# Altium schematic symbol library RFmodules.SchLib: 47 symbols
Pins are listed as number, name and electrical type; pins without a type are passive.

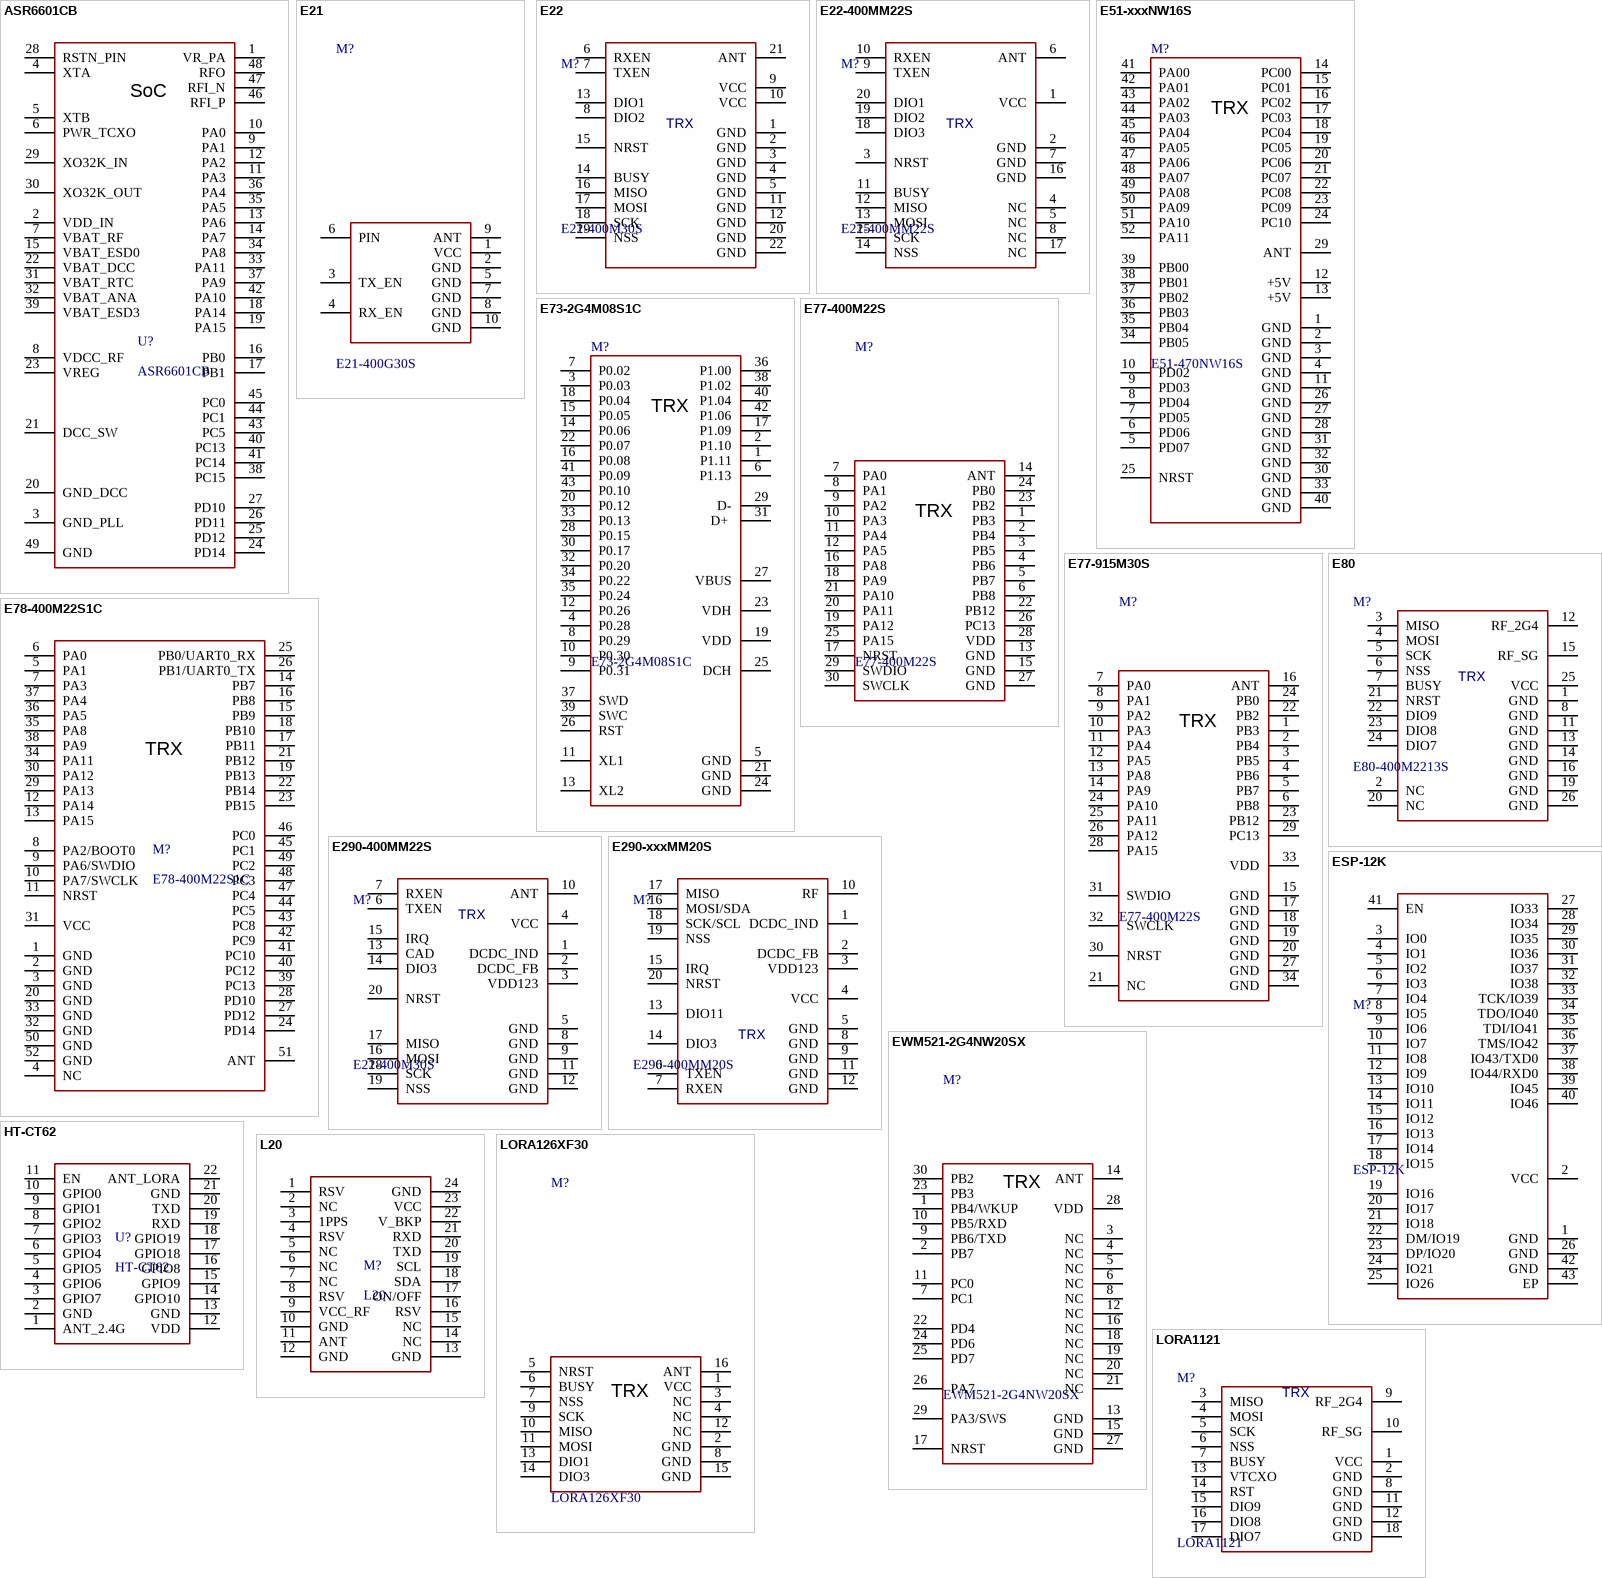
[diagram p0: symbols ASR6601CB to LORA1121]

## ASR6601CB
designator U?
pins: 1 VR_PA, 2 VDD_IN, 3 GND_PLL, 4 XTA, 5 XTB, 6 PWR_TCXO, 7 VBAT_RF, 8 VDCC_RF, 9 PA1, 10 PA0, 11 PA3, 12 PA2, 13 PA6, 14 PA7, 15 VBAT_ESD0, 16 PB0, 17 PB1, 18 PA14, 19 PA15, 20 GND_DCC, 21 DCC_SW, 22 VBAT_DCC, 23 VREG, 24 PD14, 25 PD12, 26 PD11, 27 PD10, 28 RSTN_PIN, 29 XO32K_IN, 30 XO32K_OUT, 31 VBAT_RTC, 32 VBAT_ANA, 33 PA11, 34 PA8, 35 PA5, 36 PA4, 37 PA9, 38 PC15, 39 VBAT_ESD3, 40 PC13, 41 PC14, 42 PA10, 43 PC5, 44 PC1, 45 PC0, 46 RFI_P, 47 RFI_N, 48 RFO, 49 GND
text: SoC

## E21
designator M?, comment E21-400G30S
footprint E21 (Small Outline No-Lead (SON), 2.00 mm pitch; 14 pin, 18.00 mm L X 27.50 mm W X 3.00 mm H body)
pins: 1 VCC, 2 GND, 3 TX_EN, 4 RX_EN, 5 GND, 6 PIN, 7 GND, 8 GND, 9 ANT, 10 GND

## E22
designator M?, comment E22-400M30S
footprint PE22(400M30S) (38.5mm*24mm*3.8mm-S)
pins: 1 GND, 2 GND, 3 GND, 4 GND, 5 GND, 6 RXEN, 7 TXEN, 8 DIO2, 9 VCC, 10 VCC, 11 GND, 12 GND, 13 DIO1, 14 BUSY, 15 NRST, 16 MISO, 17 MOSI, 18 SCK, 19 NSS, 20 GND, 21 ANT, 22 GND
text: TRX

## E22-400MM22S
designator M?
footprint E290-XXXMM20S
pins: 1 VCC, 2 GND, 3 NRST, 4 NC, 5 NC, 6 ANT, 7 GND, 8 NC, 9 TXEN, 10 RXEN, 11 BUSY, 12 MISO, 13 MOSI, 14 NSS, 15 SCK, 16 GND, 17 NC, 18 DIO3, 19 DIO2, 20 DIO1
text: TRX

## E51-xxxNW16S
designator M?, comment E51-470NW16S
footprint E51
pins: 1 GND, 2 GND, 3 GND, 4 GND, 5 PD07, 6 PD06, 7 PD05, 8 PD04, 9 PD03, 10 PD02, 11 GND, 12 +5V, 13 +5V, 14 PC00, 15 PC01, 16 PC02, 17 PC03, 18 PC04, 19 PC05, 20 PC06, 21 PC07, 22 PC08, 23 PC09, 24 PC10, 25 NRST, 26 GND, 27 GND, 28 GND, 29 ANT, 30 GND, 31 GND, 32 GND, 33 GND, 34 PB05, 35 PB04, 36 PB03, 37 PB02, 38 PB01, 39 PB00, 40 GND, 41 PA00, 42 PA01, 43 PA02, 44 PA03, 45 PA04, 46 PA05, 47 PA06, 48 PA07, 49 PA08, 50 PA09, 51 PA10, 52 PA11
text: TRX

## E73-2G4M08S1C
designator M?
footprint E73-2G4M08S1CX
pins: 1  P1.11, 2 P1.10, 3 P0.03 , 4 P0.28, 5 GND, 6 P1.13, 7 P0.02, 8 P0.29, 9 P0.31, 10 P0.30, 11 XL1, 12 P0.26, 13 XL2, 14 P0.06, 15 P0.05, 16 P0.08, 17 P1.09, 18 P0.04, 19 VDD, 20 P0.12, 21 GND, 22 P0.07, 23 VDH, 24 GND, 25 DCH, 26 RST, 27 VBUS, 28 P0.15, 29 D-, 30 P0.17, 31 D+ , 32 P0.20, 33 P0.13, 34 P0.22, 35 P0.24, 36 P1.00, 37 SWD, 38 P1.02, 39 SWC, 40 P1.04, 41 P0.09, 42 P1.06, 43 P0.10
text: TRX

## E77-400M22S
designator M?
footprint E77XX-M22
pins: 1 PB3, 2 PB4, 3 PB5, 4 PB6, 5 PB7, 6 PB8, 7 PA0, 8 PA1, 9 PA2, 10 PA3, 11 PA4, 12 PA5, 13 GND, 14 ANT, 15 GND, 16 PA8, 17 NRST, 18 PA9, 19 PA12, 20 PA11, 21 PA10, 22 PB12, 23 PB2, 24 PB0, 25 PA15, 26 PC13, 27 GND, 28 VDD, 29 SWDIO, 30 SWCLK
text: TRX

## E77-915M30S
designator M?, comment E77-400M22S
footprint E77-915M30S
pins: 1 PB3, 2 PB4, 3 PB5, 4 PB6, 5 PB7, 6 PB8, 7 PA0, 8 PA1, 9 PA2, 10 PA3, 11 PA4, 12 PA5, 13 PA8, 14 PA9, 15 GND, 16 ANT, 17 GND, 18 GND, 19 GND, 20 GND, 21 NC, 22 PB2, 23 PB12, 24 PA10, 24 PB0, 25 PA11, 26 PA12, 27 GND, 28 PA15, 29 PC13, 30 NRST, 31 SWDIO, 32 SWCLK, 33 VDD, 34 GND
text: TRX

## E78-400M22S1C
designator M?
footprint E78_400_M22S1C
pins: 1 GND, 2 GND, 3 GND, 4 NC, 5 PA1, 6 PA0, 7 PA3, 8 PA2/BOOT0, 9 PA6/SWDIO, 10 PA7/SWCLK, 11 NRST, 12 PA14, 13 PA15, 14 PB7, 15 PB9, 16 PB8, 17 PB11, 18 PB10, 19 PB13, 20 GND, 21 PB12, 22 PB14, 23 PB15, 24 PD14, 25 PB0/UART0_RX, 26 PB1/UART0_TX, 27 PD12, 28 PD10, 29 PA13, 30 PA12, 31 VCC, 32 GND, 33 GND, 34 PA11, 35 PA8, 36 PA5, 37 PA4, 38 PA9, 39 PC13, 40 PC12, 41 PC10, 42 PC9, 43 PC8, 44 PC5, 45 PC1, 46 PC0, 47 PC4, 48 PC3, 49 PC2, 50 GND, 51 ANT, 52 GND
text: TRX

## E80
designator M?, comment E80-400M2213S
footprint E80
pins: 1 GND, 2 NC, 3 MISO, 4 MOSI, 5 SCK, 6 NSS, 7 BUSY, 8 GND, 11 GND, 12 RF_2G4, 13 GND, 14 GND, 15 RF_SG, 16 GND, 19 GND, 20 NC, 21 NRST, 22 DIO9, 23 DIO8, 24 DIO7, 25 VCC, 26 GND
text: TRX

## E290-400MM22S
designator M?, comment E22-400M30S
footprint E290-XXXMM20S
pins: 1 DCDC_IND, 2 DCDC_FB, 3 VDD123, 4 VCC, 5 GND, 6 TXEN, 7 RXEN, 8 GND, 9 GND, 10 ANT, 11 GND, 12 GND, 13 CAD, 14 DIO3, 15 IRQ, 16 MOSI, 17 MISO, 18 SCK, 19 NSS, 20 NRST
text: TRX

## E290-xxxMM20S
designator M?, comment E290-400MM20S
footprint E290-XXXMM20S
pins: 1 DCDC_IND, 2 DCDC_FB, 3 VDD123, 4 VCC, 5 GND, 6 TXEN, 7 RXEN, 8 GND, 9 GND, 10 RF, 11 GND, 12 GND, 13 DIO11, 14 DIO3, 15 IRQ, 16 MOSI/SDA, 17 MISO, 18 SCK/SCL, 19 NSS, 20 NRST
text: TRX

## ESP-12K
designator M?
footprint ESP-12K
pins: 1 GND, 2 VCC, 3 IO0, 4 IO1, 5 IO2, 6 IO3, 7 IO4, 8 IO5, 9 IO6, 10 IO7, 11 IO8, 12 IO9, 13 IO10, 14 IO11, 15 IO12, 16 IO13, 17 IO14, 18 IO15, 19 IO16, 20 IO17, 21 IO18, 22 DM/IO19, 23 DP/IO20, 24 IO21, 25 IO26, 26 GND, 27 IO33, 28 IO34, 29 IO35, 30 IO36, 31 IO37, 32 IO38, 33 TCK/IO39, 34 TDO/IO40, 35 TDI/IO41, 36 TMS/IO42, 37 IO43/TXD0, 38 IO44/RXD0, 39 IO45, 40 IO46, 41 EN, 42 GND, 43 EP

## EWM521-2G4NW20SX
designator M?
footprint EWM-XXXNWXXSX (20mm*14mm*2.8mm-S)
pins: 1 PB4/WKUP, 2 PB7, 3 NC, 4 NC, 5 NC, 6 NC, 7 PC1, 8 NC, 9 PB6/TXD, 10 PB5/RXD, 11 PC0, 12 NC, 13 GND, 14 ANT, 15 GND, 16 NC, 17 NRST, 18 NC, 19 NC, 20 NC, 21 NC, 22 PD4, 23 PB3, 24 PD6, 25 PD7, 26 PA7, 27 GND, 28 VDD, 29 PA3/SWS, 30 PB2
text: TRX

## HT-CT62
designator U?
Value: HT-CT62
footprint HTCC-AM01
pins: 1 ANT_2.4G, 2 GND, 3 GPIO7, 4 GPIO6, 5 GPIO5, 6 GPIO4, 7 GPIO3, 8 GPIO2, 9 GPIO1, 10 GPIO0, 11 EN, 12 VDD, 13 GND, 14 GPIO10, 15 GPIO9, 16 GPIO8, 17 GPIO18, 18 GPIO19, 19 RXD, 20 TXD, 21 GND, 22 ANT_LORA

## L20
designator M?
Вид: Модуль
footprint LGA24_GNSS
pins: 1 RSV, 2 NC, 3 1PPS, 4 RSV, 5 NC, 6 NC, 7 NC, 8 RSV, 9 VCC_RF, 10 GND, 11 ANT, 12 GND, 13 GND, 14 NC, 15 NC, 16 RSV, 17 ON/OFF, 18 SDA, 19 SCL, 20 TXD, 21 RXD, 22 V_BKP, 23 VCC, 24 GND

## LORA126XF30
designator M?
footprint LGA16_LORA126XF30
pins: 1 VCC, 2 GND, 3 NC, 4 NC, 5 NRST, 6 BUSY, 7 NSS, 8 GND, 9 SCK, 10 MISO, 11 MOSI, 12 NC, 13 DIO1, 14 DIO3, 15 GND, 16 ANT
text: TRX

## LORA1121
designator M?
footprint LGA16_LORA1280
pins: 1 VCC, 2 GND, 3 MISO, 4 MOSI, 5 SCK, 6 NSS, 7 BUSY, 8 GND, 9 RF_2G4, 10 RF_SG, 11 GND, 12 GND, 13 VTCXO, 14 RST, 15 DIO9, 16 DIO8, 17 DIO7, 18 GND
text: TRX

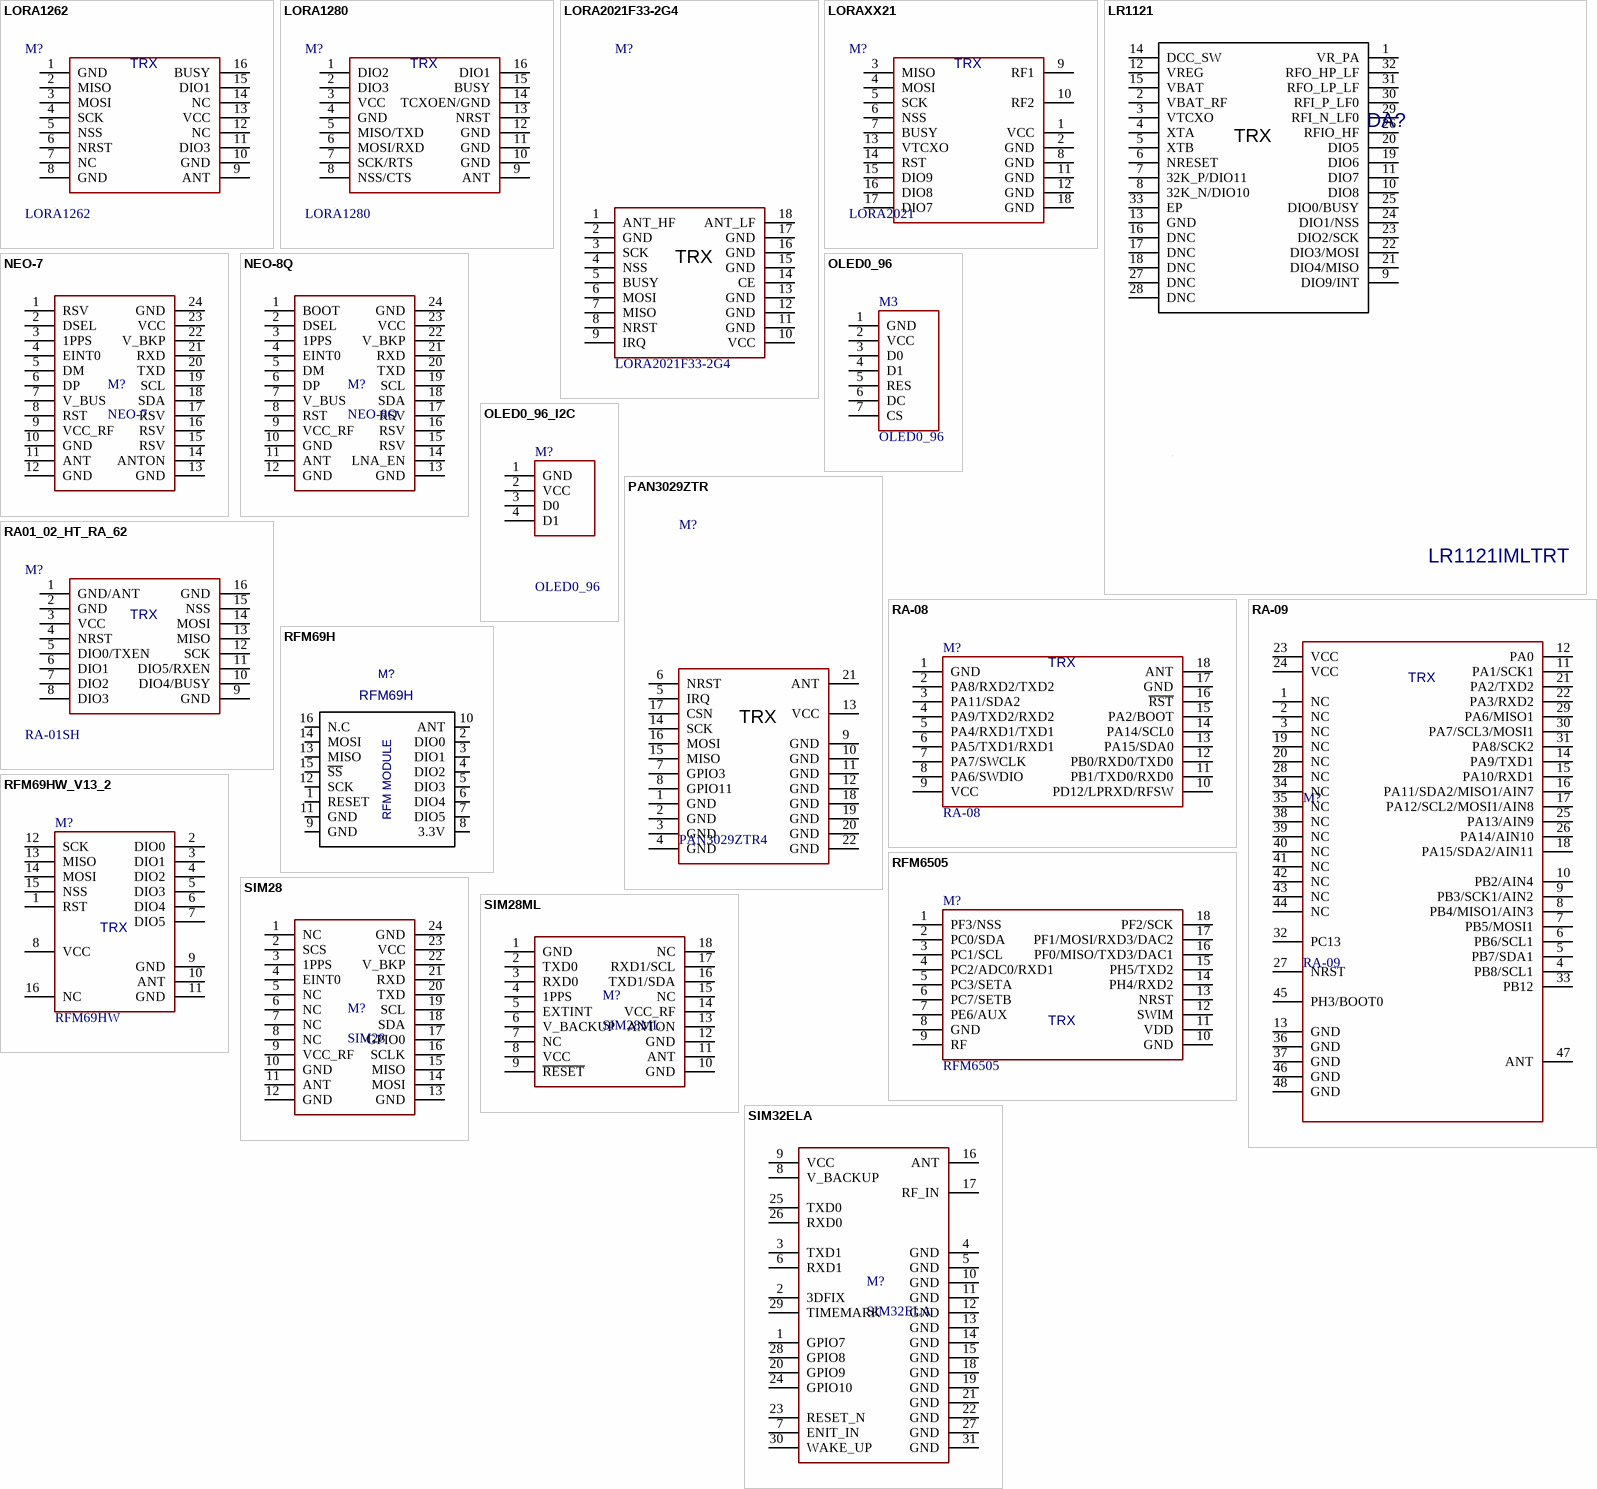
[diagram p1: symbols LORA1262 to SIM32ELA]

## LORA1262
designator M?
footprint LGA16_LORA1280
pins: 1 GND, 2 MISO, 3 MOSI, 4 SCK, 5 NSS, 6 NRST, 7 NC, 8 GND, 9 ANT, 10 GND, 11 DIO3, 12 NC, 13 VCC, 14 NC, 15 DIO1, 16 BUSY
text: TRX

## LORA1280
designator M?
footprint LGA16_LORA1280
pins: 1 DIO2, 2 DIO3, 3 VCC, 4 GND, 5 MISO/TXD, 6 MOSI/RXD, 7 SCK/RTS, 8 NSS/CTS, 9 ANT, 10 GND, 11 GND, 12 GND, 13 NRST, 14 TCXOEN/GND, 15 BUSY, 16 DIO1
text: TRX

## LORA2021F33-2G4
designator M?
footprint LGA18_LORA2021F33
pins: 1 ANT_HF, 2 GND, 3 SCK, 4 NSS, 5 BUSY, 6 MOSI, 7 MISO, 8 NRST, 9 IRQ, 10 VCC, 11 GND, 12 GND, 13 GND, 14 CE, 15 GND, 16 GND, 17 GND, 18 ANT_LF
text: TRX

## LORAXX21
designator M?, comment LORA2021
footprint LGA16_LORA1280
pins: 1 VCC, 2 GND, 3 MISO, 4 MOSI, 5 SCK, 6 NSS, 7 BUSY, 8 GND, 9 RF1, 10 RF2, 11 GND, 12 GND, 13 VTCXO, 14 RST, 15 DIO9, 16 DIO8, 17 DIO7, 18 GND
text: TRX

## LR1121
designator DA?, comment LR1121IMLTRT
Value: {Value}; Mounting  Method: SMD
footprint QFN32 (QFN, 32-Leads, Body 5,00x5,00mm, Pitch 0,50mm, Thermal Pad 3,60x3,60mm, IPC Medium Density)
pins: 1 VR_PA, 2 VBAT_RF, 3 VTCXO, 4 XTA, 5 XTB, 6 NRESET, 7 32K_P/DIO11, 8 32K_N/DIO10, 9 DIO9/INT, 10 DIO8, 11 DIO7, 12 VREG, 13 GND, 14 DCC_SW, 15 VBAT, 16 DNC, 17 DNC, 18 DNC, 19 DIO6, 20 DIO5, 21 DIO4/MISO, 22 DIO3/MOSI, 23 DIO2/SCK, 24 DIO1/NSS, 25 DIO0/BUSY, 26 RFIO_HF, 27 DNC, 28 DNC, 29 RFI_N_LF0, 30 RFI_P_LF0, 31 RFO_LP_LF, 32 RFO_HP_LF, 33 EP
text: TRX

## NEO-7
designator M?
Вид: Модуль
footprint LGA24_GNSS
pins: 1 RSV, 2 DSEL, 3 1PPS, 4 EINT0, 5 DM, 6 DP, 7 V_BUS, 8 RST, 9 VCC_RF, 10 GND, 11 ANT, 12 GND, 13 GND, 14 ANTON, 15 RSV, 16 RSV, 17 RSV, 18 SDA, 19 SCL, 20 TXD, 21 RXD, 22 V_BKP, 23 VCC, 24 GND

## NEO-8Q
designator M?
Вид: Модуль
footprint LGA24_GNSS
pins: 1 BOOT, 2 DSEL, 3 1PPS, 4 EINT0, 5 DM, 6 DP, 7 V_BUS, 8 RST, 9 VCC_RF, 10 GND, 11 ANT, 12 GND, 13 GND, 14 LNA_EN, 15 RSV, 16 RSV, 17 RSV, 18 SDA, 19 SCL, 20 TXD, 21 RXD, 22 V_BKP, 23 VCC, 24 GND

## OLED0_96
designator M3
footprint OLED096 (Header, Vertical, 2.54 mm pitch; 0.70 mm lead width, 7 pins, 1 row, 7 pins per row, 16.51 mm L X 2.54 mm W X 7.54 mm H body)
pins: 1 GND, 2 VCC, 3 D0, 4 D1, 5 RES, 6 DC, 7 CS

## OLED0_96_I2C
designator M?, comment OLED0_96
footprint OLED096_I2C (Header, Vertical, 2.54 mm pitch; 0.70 mm lead width, 7 pins, 1 row, 7 pins per row, 16.51 mm L X 2.54 mm W X 7.54 mm H body)
pins: 1 GND, 2 VCC, 3 D0, 4 D1

## PAN3029ZTR
designator M?, comment PAN3029ZTR4
footprint PAN3029ZTR (Small Outline No-Lead (SON), 1.27 mm pitch; 22 pin, 15.00 mm L X 15.00 mm W X 2.50 mm H body)
pins: 1 GND, 2 GND, 3 GND, 4 GND, 5 IRQ, 6 NRST, 7 GPIO3, 8 GPIO11, 9 GND, 10 GND, 11 GND, 12 GND, 13 VCC, 14 SCK, 15 MISO, 16 MOSI, 17 CSN, 18 GND, 19 GND, 20 GND, 21 ANT, 22 GND
text: TRX

## RA01_02_HT_RA_62
designator M?, comment RA-01SH
footprint RA01
pins: 1 GND/ANT, 2 GND, 3 VCC, 4 NRST, 5 DIO0/TXEN, 6 DIO1, 7 DIO2, 8 DIO3, 9 GND, 10 DIO4/BUSY, 11 DIO5/RXEN, 12 SCK, 13 MISO, 14 MOSI, 15 NSS, 16 GND
text: TRX

## RA-08
designator M?
footprint LGA18_RA08
pins: 1 GND, 2 PA8/RXD2/TXD2, 3 PA11/SDA2, 4 PA9/TXD2/RXD2, 5 PA4/RXD1/TXD1, 6 PA5/TXD1/RXD1, 7 PA7/SWCLK, 8 PA6/SWDIO, 9 VCC, 10 PD12/LPRXD/RFSW, 11 PB1/TXD0/RXD0, 12 PB0/RXD0/TXD0, 13 PA15/SDA0, 14 PA14/SCL0, 15 PA2/BOOT, 16 ~{RST}, 17 GND, 18 ANT
text: TRX

## RA-09
designator M?
footprint LGA18_RA08
pins: 1 NC, 2 NC, 3 NC, 4 PB8/SCL1, 5 PB7/SDA1, 6 PB6/SCL1, 7 PB5/MOSI1, 8 PB4/MISO1/AIN3, 9 PB3/SCK1/AIN2, 10 PB2/AIN4, 11 PA1/SCK1, 12 PA0, 13 GND, 14 PA9/TXD1, 15 PA10/RXD1, 16 PA11/SDA2/MISO1/AIN7, 17 PA12/SCL2/MOSI1/AIN8, 18 PA15/SDA2/AIN11, 19 NC, 20 NC, 21 PA2/TXD2, 22 PA3/RXD2, 23 VCC, 24 VCC, 25 PA13/AIN9, 26 PA14/AIN10, 27 NRST, 28 NC, 29 PA6/MISO1, 30 PA7/SCL3/MOSI1, 31 PA8/SCK2, 32 PC13, 33 PB12, 34 NC, 35 NC, 36 GND, 37 GND, 38 NC, 39 NC, 40 NC, 41 NC, 42 NC, 43 NC, 44 NC, 45 PH3/BOOT0, 46 GND, 47 ANT, 48 GND
text: TRX

## RFM69H
designator M?
Value: *
footprint RFM69-H-MOD
pins: 1 RESET, 2 DIO0, 3 DIO1, 4 DIO2, 5 DIO3, 6 DIO4, 7 DIO5, 8 3.3V, 9 GND, 10 ANT, 11 GND, 12 SCK, 13 MISO, 14 MOSI, 15 ~{SS}, 16 N.C
text: RFM MODULE

## RFM69HW_V13_2
designator M?, comment RFM69HW
Вид: Модуль
footprint LGA16_RFM69 (LGA, 16-Leads, RFM69HW)
pins: 1 RST, 2 DIO0, 3 DIO1, 4 DIO2, 5 DIO3, 6 DIO4, 7 DIO5, 8 VCC, 9 GND, 10 ANT, 11 GND, 12 SCK, 13 MISO, 14 MOSI, 15 NSS, 16 NC
text: TRX

## RFM6505
designator M?
footprint RFM6505
pins: 1 PF3/NSS, 2 PC0/SDA, 3 PC1/SCL, 4 PC2/ADC0/RXD1, 5 PC3/SETA, 6 PC7/SETB, 7 PE6/AUX, 8 GND, 9 RF, 10 GND, 11 VDD, 12 SWIM, 13 NRST, 14 PH4/RXD2, 15 PH5/TXD2, 16 PF0/MISO/TXD3/DAC1, 17 PF1/MOSI/RXD3/DAC2, 18 PF2/SCK
text: TRX

## SIM28
designator M?
Вид: Модуль
footprint LGA24_GNSS
pins: 1 NC, 2 SCS, 3 1PPS, 4 EINT0, 5 NC, 6 NC, 7 NC, 8 NC, 9 VCC_RF, 10 GND, 11 ANT, 12 GND, 13 GND, 14 MOSI, 15 MISO, 16 SCLK, 17 GPIO0, 18 SDA, 19 SCL, 20 TXD, 21 RXD, 22 V_BKP, 23 VCC, 24 GND

## SIM28ML
designator M?
Вид: Модуль
footprint LGA18_GNSS (8-Leads, Body 10,10x9,70mm, Pitch 1,10mm)
pins: 1 GND, 2 TXD0, 3 RXD0, 4 1PPS, 5 EXTINT, 6 V_BACKUP, 7 NC, 8 VCC, 9 ~{RESET}, 10 GND, 11 ANT, 12 GND, 13 ANTON, 14 VCC_RF, 15 NC, 16 TXD1/SDA, 17 RXD1/SCL, 18 NC

## SIM32ELA
designator M?
Вид: Модуль
footprint LGA_SIM32 (0mm)
pins: 1 GPIO7, 2 3DFIX, 3 TXD1, 4 GND, 5 GND, 6 RXD1, 7 ENIT_IN , 8 V_BACKUP, 9 VCC, 10 GND, 11 GND, 12 GND, 13 GND, 14 GND, 15 GND, 16 ANT, 17 RF_IN, 18 GND, 19 GND, 20 GPIO9, 21 GND, 22 GND, 23 RESET_N, 24 GPIO10, 25 TXD0, 26 RXD0, 27 GND, 28 GPIO8, 29 TIMEMARK, 30 WAKE_UP , 31 GND

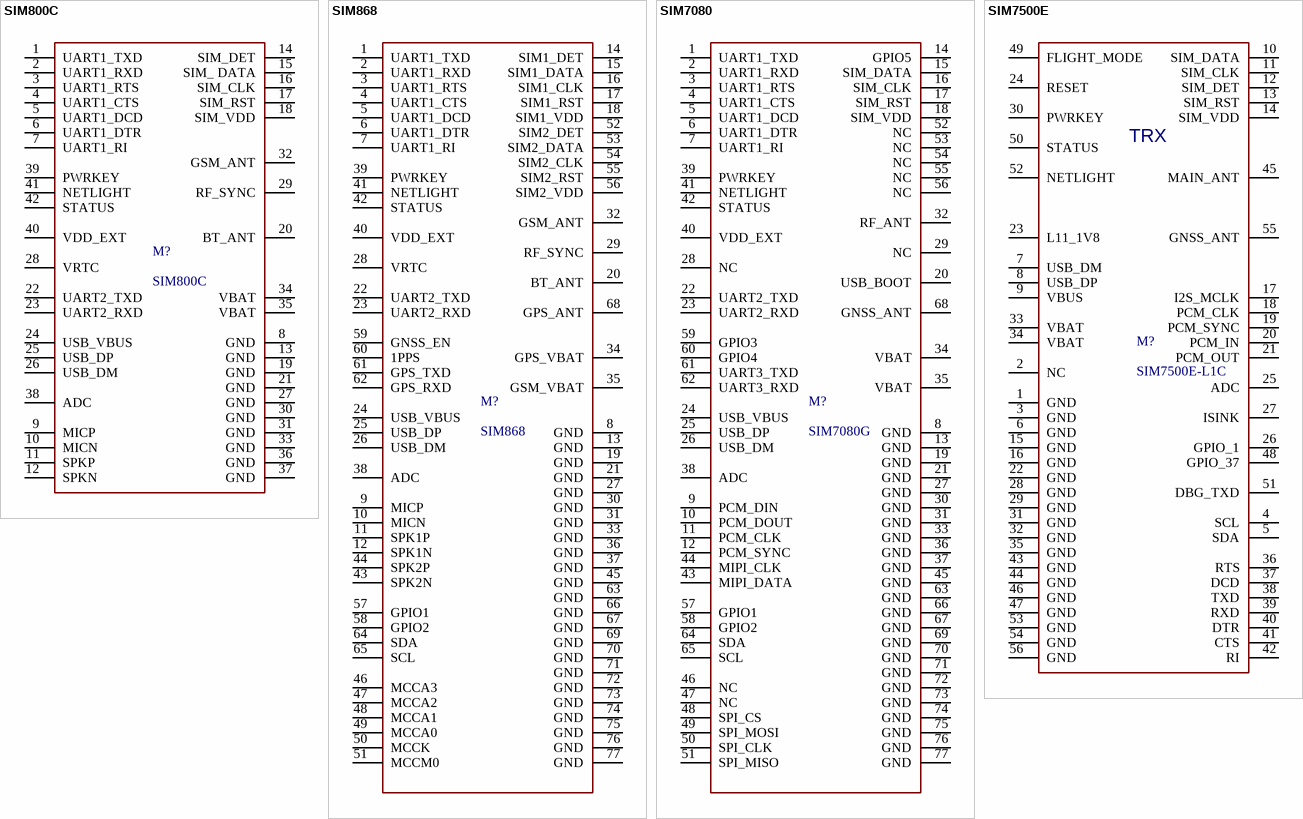
[diagram p2: symbols SIM800C to SIM7500E]

## SIM800C
designator M?
Вид: Модуль
footprint LGA42_SIM800C_1 (SIM800C module)
pins: 1 UART1_TXD, 2 UART1_RXD, 3 UART1_RTS, 4 UART1_CTS, 5 UART1_DCD, 6 UART1_DTR, 7 UART1_RI, 8 GND, 9 MICP, 10 MICN, 11 SPKP, 12 SPKN, 13 GND, 14 SIM_DET, 15 SIM_ DATA, 16 SIM_CLK, 17 SIM_RST, 18 SIM_VDD, 19 GND, 20 BT_ANT, 21 GND, 22 UART2_TXD, 23 UART2_RXD, 24 USB_VBUS, 25 USB_DP, 26 USB_DM, 27 GND, 28 VRTC, 29 RF_SYNC, 30 GND, 31 GND, 32 GSM_ANT, 33 GND, 34 VBAT, 35 VBAT, 36 GND, 37 GND, 38 ADC, 39 PWRKEY, 40 VDD_EXT, 41 NETLIGHT, 42 STATUS

## SIM868
designator M?
Вид: Модуль
footprint LGA77_SIMCOM (SIM868 module)
pins: 1 UART1_TXD, 2 UART1_RXD, 3 UART1_RTS, 4 UART1_CTS, 5 UART1_DCD, 6 UART1_DTR, 7 UART1_RI, 8 GND, 9 MICP, 10 MICN, 11 SPK1P, 12 SPK1N, 13 GND, 14 SIM1_DET, 15 SIM1_DATA, 16 SIM1_CLK, 17 SIM1_RST, 18 SIM1_VDD, 19 GND, 20 BT_ANT, 21 GND, 22 UART2_TXD, 23 UART2_RXD, 24 USB_VBUS, 25 USB_DP, 26 USB_DM, 27 GND, 28 VRTC, 29 RF_SYNC, 30 GND, 31 GND, 32 GSM_ANT, 33 GND, 34 GPS_VBAT, 35 GSM_VBAT, 36 GND, 37 GND, 38 ADC, 39 PWRKEY, 40 VDD_EXT, 41 NETLIGHT, 42 STATUS, 43 SPK2N, 44 SPK2P, 45 GND, 46 MCCA3, 47 MCCA2, 48 MCCA1, 49 MCCA0, 50 MCCK, 51 MCCM0, 52 SIM2_DET, 53 SIM2_DATA, 54 SIM2_CLK, 55 SIM2_RST, 56 SIM2_VDD, 57 GPIO1, 58 GPIO2, 59 GNSS_EN, 60 1PPS, 61 GPS_TXD, 62 GPS_RXD, 63 GND, 64 SDA, 65 SCL, 66 GND, 67 GND, 68 GPS_ANT, 69 GND, 70 GND, 71 GND, 72 GND, 73 GND, 74 GND, 75 GND, 76 GND, 77 GND

## SIM7080
designator M?, comment SIM7080G
Вид: Модуль
footprint LGA77_SIMCOM (SIM868 module)
pins: 1 UART1_TXD, 2 UART1_RXD, 3 UART1_RTS, 4 UART1_CTS, 5 UART1_DCD, 6 UART1_DTR, 7 UART1_RI, 8 GND, 9 PCM_DIN, 10 PCM_DOUT, 11 PCM_CLK, 12 PCM_SYNC, 13 GND, 14 GPIO5, 15 SIM_DATA, 16 SIM_CLK, 17 SIM_RST, 18 SIM_VDD, 19 GND, 20 USB_BOOT, 21 GND, 22 UART2_TXD, 23 UART2_RXD, 24 USB_VBUS, 25 USB_DP, 26 USB_DM, 27 GND, 28 NC, 29 NC, 30 GND, 31 GND, 32 RF_ANT, 33 GND, 34 VBAT, 35 VBAT, 36 GND, 37 GND, 38 ADC, 39 PWRKEY, 40 VDD_EXT, 41 NETLIGHT, 42 STATUS, 43 MIPI_DATA, 44 MIPI_CLK, 45 GND, 46 NC, 47 NC, 48 SPI_CS, 49 SPI_MOSI, 50 SPI_CLK, 51 SPI_MISO, 52 NC, 53 NC, 54 NC, 55 NC, 56 NC, 57 GPIO1, 58 GPIO2, 59 GPIO3, 60 GPIO4, 61 UART3_TXD, 62 UART3_RXD, 63 GND, 64 SDA, 65 SCL, 66 GND, 67 GND, 68 GNSS_ANT, 69 GND, 70 GND, 71 GND, 72 GND, 73 GND, 74 GND, 75 GND, 76 GND, 77 GND

## SIM7500E
designator M?, comment SIM7500E-L1C
Вид: Модуль
footprint SIM7500X
pins: 1 GND, 2 NC, 3 GND, 4 SCL, 5 SDA, 6 GND, 7 USB_DM, 8 USB_DP, 9 VBUS, 10 SIM_DATA, 11 SIM_CLK, 12 SIM_DET, 13 SIM_RST, 14 SIM_VDD, 15 GND, 16 GND, 17 I2S_MCLK, 18 PCM_CLK, 19 PCM_SYNC, 20 PCM_IN, 21 PCM_OUT, 22 GND, 23 L11_1V8, 24 RESET, 25 ADC, 26 GPIO_1, 27 ISINK, 28 GND, 29 GND, 30 PWRKEY, 31 GND, 32 GND, 33 VBAT, 34 VBAT, 35 GND, 36 RTS, 37 DCD, 38 TXD, 39 RXD, 40 DTR, 41 CTS, 42 RI, 43 GND, 44 GND, 45 MAIN_ANT, 46 GND, 47 GND, 48 GPIO_37, 49 FLIGHT_MODE, 50 STATUS, 51 DBG_TXD, 52 NETLIGHT, 53 GND, 54 GND, 55 GNSS_ANT, 56 GND
text: TRX

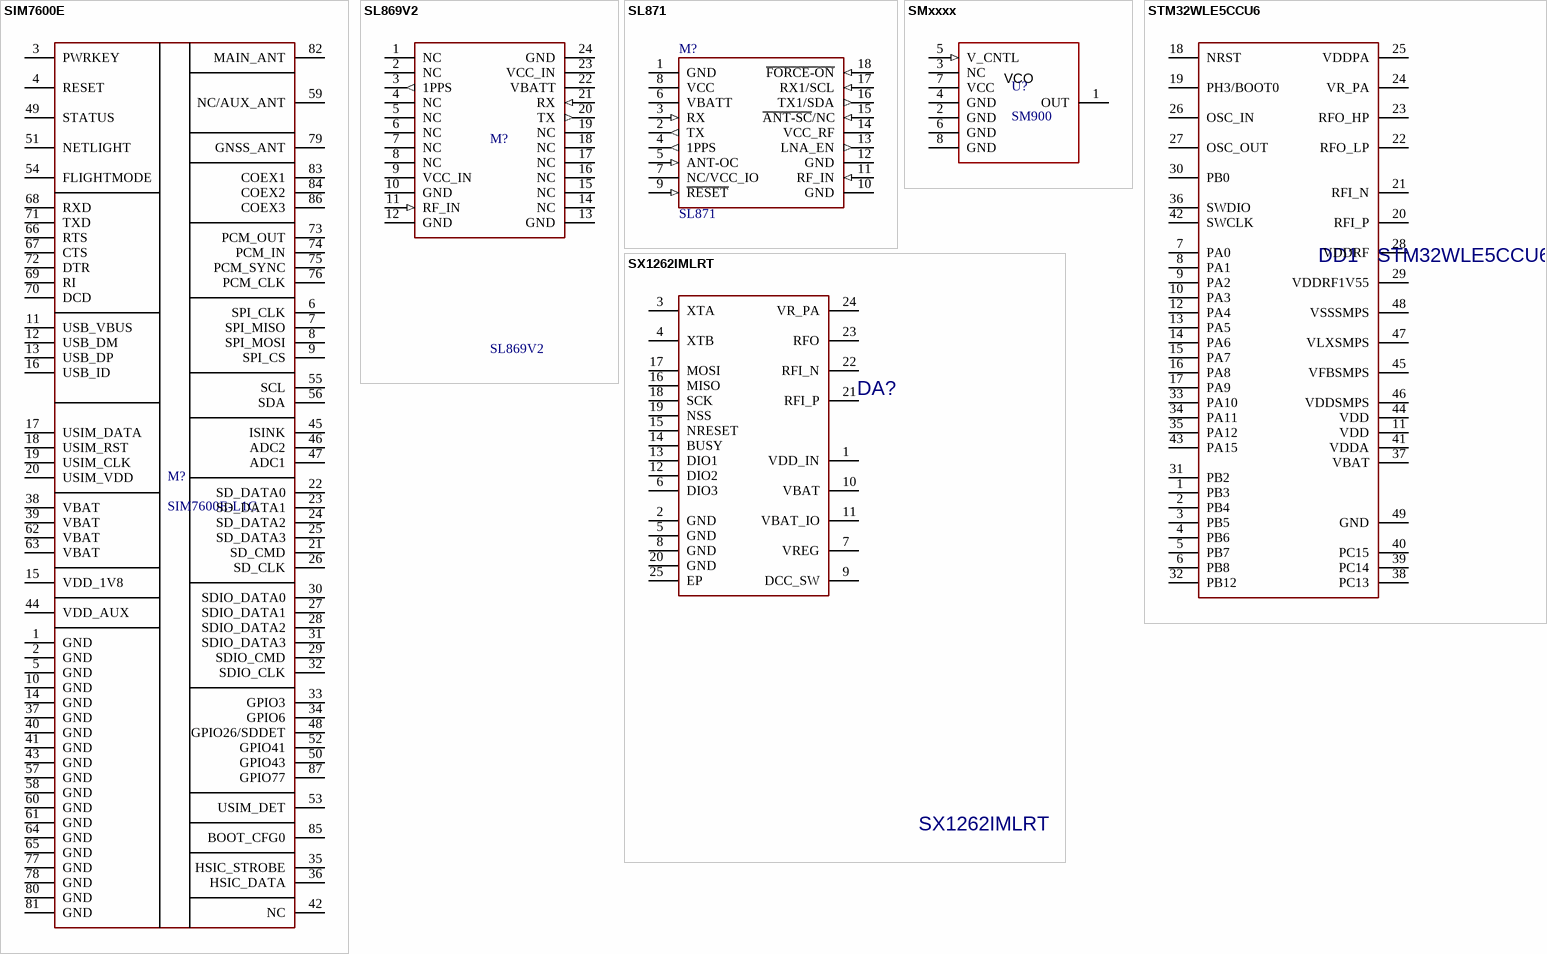
[diagram p3: symbols SIM7600E to SX1262IMLRT]

## SIM7600E
designator M?, comment SIM7600E-L1C
Вид: Модуль
footprint SIM7600E_LCC
pins: 1 GND, 2 GND, 3 PWRKEY, 4 RESET, 5 GND, 6 SPI_CLK, 7 SPI_MISO, 8 SPI_MOSI, 9 SPI_CS, 10 GND, 11 USB_VBUS, 12 USB_DM, 13 USB_DP, 14 GND, 15 VDD_1V8, 16 USB_ID, 17 USIM_DATA, 18 USIM_RST, 19 USIM_CLK, 20 USIM_VDD, 21 SD_CMD, 22 SD_DATA0, 23 SD_DATA1, 24 SD_DATA2, 25 SD_DATA3, 26 SD_CLK, 27 SDIO_DATA1, 28 SDIO_DATA2, 29 SDIO_CMD, 30 SDIO_DATA0, 31 SDIO_DATA3, 32 SDIO_CLK, 33 GPIO3, 34 GPIO6, 35 HSIC_STROBE, 36 HSIC_DATA, 37 GND, 38 VBAT, 39 VBAT, 40 GND, 41 GND, 42 NC, 43 GND, 44 VDD_AUX, 45 ISINK, 46 ADC2, 47 ADC1, 48 GPIO26/SDDET, 49 STATUS, 50 GPIO43, 51 NETLIGHT, 52 GPIO41, 53 USIM_DET, 54 FLIGHTMODE, 55 SCL, 56 SDA, 57 GND, 58 GND, 59 NC/AUX_ANT, 60 GND, 61 GND, 62 VBAT, 63 VBAT, 64 GND, 65 GND, 66 RTS, 67 CTS, 68 RXD, 69 RI, 70 DCD, 71 TXD, 72 DTR, 73 PCM_OUT, 74 PCM_IN, 75 PCM_SYNC, 76 PCM_CLK, 77 GND, 78 GND, 79 GNSS_ANT, 80 GND, 81 GND, 82 MAIN_ANT, 83 COEX1, 84 COEX2, 85 BOOT_CFG0, 86 COEX3, 87 GPIO77

## SL869V2
designator M?
GNSS receiver module, 16mm*12.2mm*2.4mm LCC; Виробник: Telit; Вид: Модуль
pins: 1 NC, 2 NC, 3 1PPS (out), 4 NC, 5 NC, 6 NC, 7 NC, 8 NC, 9 VCC_IN (power), 10 GND (power), 11 RF_IN (in), 12 GND (power), 13 GND (power), 14 NC, 15 NC, 16 NC, 17 NC, 18 NC, 19 NC, 20 TX (out), 21 RX (in), 22 VBATT (power), 23 VCC_IN (power), 24 GND (power)

## SL871
designator M?
GNSS receiver module, 10.1mm*9.7mm*2.4mm LCC; Виробник: Telit; Вид: Модуль
pins: 1 GND (power), 2 TX (out), 3 RX (in), 4 1PPS (out), 5 ANT-OC (in), 6 VBATT (power), 7 NC/VCC_IO (power), 8 VCC (power), 9 ~{RESET} (in), 10 GND (power), 11 RF_IN (in), 12 GND (power), 13 LNA_EN (out), 14 VCC_RF (power), 15 ~{ANT-SC}/NC (in), 16 TX1/SDA (out), 17 RX1/SCL (in), 18 ~{FORCE-ON} (in)

## SMxxxx
designator U?, comment SM900
VCO
pins: 1 OUT, 2 GND (power), 3 NC, 4 GND (power), 5 V_CNTL (in), 6 GND (power), 7 VCC (power), 8 GND (power)

## STM32WLE5CCU6
designator DD1
Value: {Value}; Mounting  Method: SMD
footprint QFN48(7X7)
pins: 1 PB3, 2 PB4, 3 PB5, 4 PB6, 5 PB7, 6 PB8, 7 PA0, 8 PA1, 9 PA2, 10 PA3, 11 VDD, 12 PA4, 13 PA5, 14 PA6, 15 PA7, 16 PA8, 17 PA9, 18 NRST, 19 PH3/BOOT0, 20 RFI_P, 21 RFI_N, 22 RFO_LP, 23 RFO_HP, 24 VR_PA, 25 VDDPA, 26 OSC_IN, 27 OSC_OUT, 28 VDDRF, 29 VDDRF1V55, 30 PB0, 31 PB2, 32 PB12, 33 PA10, 34 PA11, 35 PA12, 36 SWDIO, 37 VBAT, 38 PC13, 39 PC14, 40 PC15, 41 VDDA, 42 SWCLK, 43 PA15, 44 VDD, 45 VFBSMPS, 46 VDDSMPS, 47 VLXSMPS, 48 VSSSMPS, 49 GND

## SX1262IMLRT
designator DA?
Value: {Value}; Mounting  Method: SMD
pins: 1 VDD_IN, 2 GND, 3 XTA, 4 XTB, 5 GND, 6 DIO3, 7 VREG, 8 GND, 9 DCC_SW, 10 VBAT, 11 VBAT_IO, 12 DIO2, 13 DIO1, 14 BUSY, 15 NRESET, 16 MISO, 17 MOSI, 18 SCK, 19 NSS, 20 GND, 21 RFI_P, 22 RFI_N, 23 RFO, 24 VR_PA, 25 EP